# Altium schematic symbol library 1-2176327-4.SchLib: 1 symbol
Pins are listed as number, name and electrical type; pins without a type are passive.

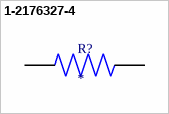
[diagram p0: symbol 1-2176327-4]

## 1-2176327-4
designator R?
Fixed Resistor CRGP 0805 120R 1%; MP: 1-2176327-4; MF: {'manufacturer': u'TE Connectivity'}; Package: None; Value: *; Price: None; Availability: Unavailable
footprint RESC2012X65N
pins: 1, 2